# Altium schematic symbol library SCH - MCU - NUVOTON - NUVOTON M258SG6AE.SchLib: 1 symbol
Pins are listed as number, name and electrical type; pins without a type are passive.

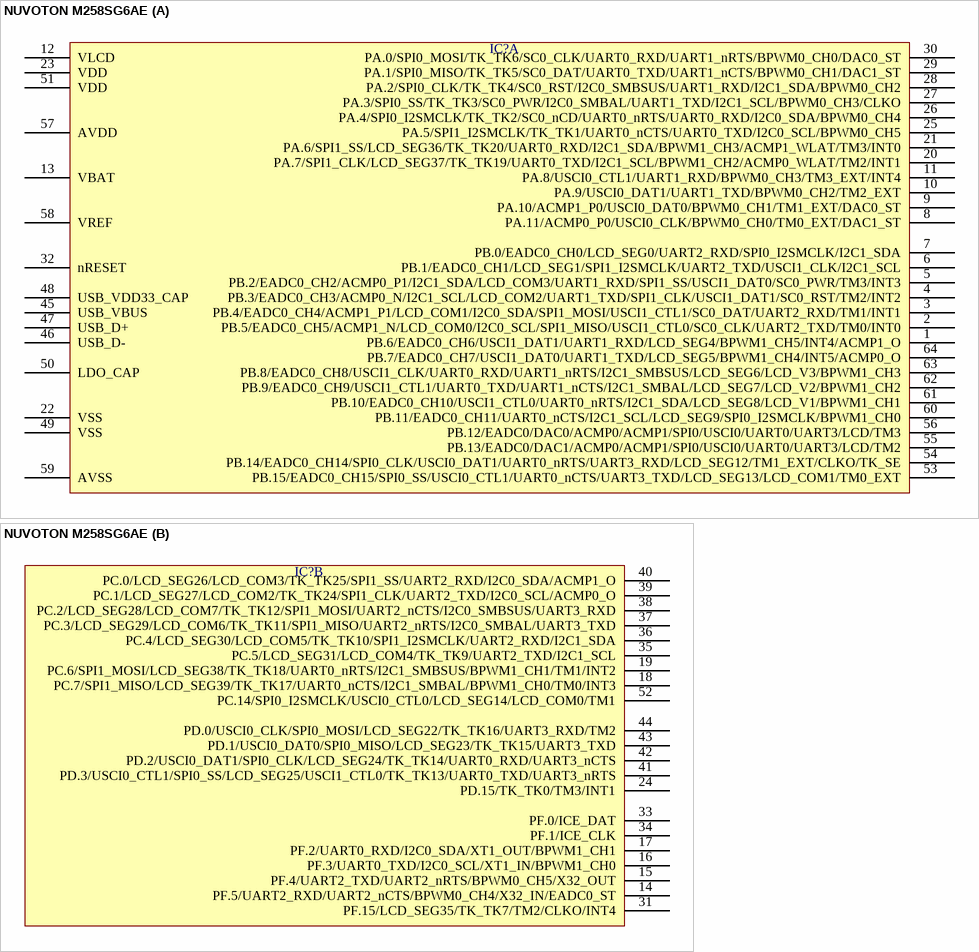
[diagram p0: symbol NUVOTON M258SG6AE]

## NUVOTON M258SG6AE
designator IC?  (value not drawn)
part A pins: 1 PB.6/EADC0_CH6/USCI1_DAT1/UART1_RXD/LCD_SEG4/BPWM1_CH5/INT4/ACMP1_O, 2 PB.5/EADC0_CH5/ACMP1_N/LCD_COM0/I2C0_SCL/SPI1_MISO/USCI1_CTL0/SC0_CLK/UART2_TXD/TM0/INT0, 3 PB.4/EADC0_CH4/ACMP1_P1/LCD_COM1/I2C0_SDA/SPI1_MOSI/USCI1_CTL1/SC0_DAT/UART2_RXD/TM1/INT1, 4 PB.3/EADC0_CH3/ACMP0_N/I2C1_SCL/LCD_COM2/UART1_TXD/SPI1_CLK/USCI1_DAT1/SC0_RST/TM2/INT2, 5 PB.2/EADC0_CH2/ACMP0_P1/I2C1_SDA/LCD_COM3/UART1_RXD/SPI1_SS/USCI1_DAT0/SC0_PWR/TM3/INT3, 6 PB.1/EADC0_CH1/LCD_SEG1/SPI1_I2SMCLK/UART2_TXD/USCI1_CLK/I2C1_SCL, 7 PB.0/EADC0_CH0/LCD_SEG0/UART2_RXD/SPI0_I2SMCLK/I2C1_SDA, 8 PA.11/ACMP0_P0/USCI0_CLK/BPWM0_CH0/TM0_EXT/DAC1_ST, 9 PA.10/ACMP1_P0/USCI0_DAT0/BPWM0_CH1/TM1_EXT/DAC0_ST, 10 PA.9/USCI0_DAT1/UART1_TXD/BPWM0_CH2/TM2_EXT, 11 PA.8/USCI0_CTL1/UART1_RXD/BPWM0_CH3/TM3_EXT/INT4, 12 VLCD, 13 VBAT, 20 PA.7/SPI1_CLK/LCD_SEG37/TK_TK19/UART0_TXD/I2C1_SCL/BPWM1_CH2/ACMP0_WLAT/TM2/INT1, 21 PA.6/SPI1_SS/LCD_SEG36/TK_TK20/UART0_RXD/I2C1_SDA/BPWM1_CH3/ACMP1_WLAT/TM3/INT0, 22 VSS, 23 VDD, 25 PA.5/SPI1_I2SMCLK/TK_TK1/UART0_nCTS/UART0_TXD/I2C0_SCL/BPWM0_CH5, 26 PA.4/SPI0_I2SMCLK/TK_TK2/SC0_nCD/UART0_nRTS/UART0_RXD/I2C0_SDA/BPWM0_CH4, 27 PA.3/SPI0_SS/TK_TK3/SC0_PWR/I2C0_SMBAL/UART1_TXD/I2C1_SCL/BPWM0_CH3/CLKO, 28 PA.2/SPI0_CLK/TK_TK4/SC0_RST/I2C0_SMBSUS/UART1_RXD/I2C1_SDA/BPWM0_CH2, 29 PA.1/SPI0_MISO/TK_TK5/SC0_DAT/UART0_TXD/UART1_nCTS/BPWM0_CH1/DAC1_ST, 30 PA.0/SPI0_MOSI/TK_TK6/SC0_CLK/UART0_RXD/UART1_nRTS/BPWM0_CH0/DAC0_ST, 32 nRESET, 45 USB_VBUS, 46 USB_D-, 47 USB_D+, 48 USB_VDD33_CAP, 49 VSS, 50 LDO_CAP, 51 VDD, 53 PB.15/EADC0_CH15/SPI0_SS/USCI0_CTL1/UART0_nCTS/UART3_TXD/LCD_SEG13/LCD_COM1/TM0_EXT, 54 PB.14/EADC0_CH14/SPI0_CLK/USCI0_DAT1/UART0_nRTS/UART3_RXD/LCD_SEG12/TM1_EXT/CLKO/TK_SE, 55 PB.13/EADC0/DAC1/ACMP0/ACMP1/SPI0/USCI0/UART0/UART3/LCD/TM2, 56 PB.12/EADC0/DAC0/ACMP0/ACMP1/SPI0/USCI0/UART0/UART3/LCD/TM3, 57 AVDD, 58 VREF, 59 AVSS, 60 PB.11/EADC0_CH11/UART0_nCTS/I2C1_SCL/LCD_SEG9/SPI0_I2SMCLK/BPWM1_CH0, 61 PB.10/EADC0_CH10/USCI1_CTL0/UART0_nRTS/I2C1_SDA/LCD_SEG8/LCD_V1/BPWM1_CH1, 62 PB.9/EADC0_CH9/USCI1_CTL1/UART0_TXD/UART1_nCTS/I2C1_SMBAL/LCD_SEG7/LCD_V2/BPWM1_CH2, 63 PB.8/EADC0_CH8/USCI1_CLK/UART0_RXD/UART1_nRTS/I2C1_SMBSUS/LCD_SEG6/LCD_V3/BPWM1_CH3, 64 PB.7/EADC0_CH7/USCI1_DAT0/UART1_TXD/LCD_SEG5/BPWM1_CH4/INT5/ACMP0_O
part B pins: 14 PF.5/UART2_RXD/UART2_nCTS/BPWM0_CH4/X32_IN/EADC0_ST, 15 PF.4/UART2_TXD/UART2_nRTS/BPWM0_CH5/X32_OUT, 16 PF.3/UART0_TXD/I2C0_SCL/XT1_IN/BPWM1_CH0, 17 PF.2/UART0_RXD/I2C0_SDA/XT1_OUT/BPWM1_CH1, 18 PC.7/SPI1_MISO/LCD_SEG39/TK_TK17/UART0_nCTS/I2C1_SMBAL/BPWM1_CH0/TM0/INT3, 19 PC.6/SPI1_MOSI/LCD_SEG38/TK_TK18/UART0_nRTS/I2C1_SMBSUS/BPWM1_CH1/TM1/INT2, 24 PD.15/TK_TK0/TM3/INT1, 31 PF.15/LCD_SEG35/TK_TK7/TM2/CLKO/INT4, 33 PF.0/ICE_DAT, 34 PF.1/ICE_CLK, 35 PC.5/LCD_SEG31/LCD_COM4/TK_TK9/UART2_TXD/I2C1_SCL, 36 PC.4/LCD_SEG30/LCD_COM5/TK_TK10/SPI1_I2SMCLK/UART2_RXD/I2C1_SDA, 37 PC.3/LCD_SEG29/LCD_COM6/TK_TK11/SPI1_MISO/UART2_nRTS/I2C0_SMBAL/UART3_TXD, 38 PC.2/LCD_SEG28/LCD_COM7/TK_TK12/SPI1_MOSI/UART2_nCTS/I2C0_SMBSUS/UART3_RXD, 39 PC.1/LCD_SEG27/LCD_COM2/TK_TK24/SPI1_CLK/UART2_TXD/I2C0_SCL/ACMP0_O, 40 PC.0/LCD_SEG26/LCD_COM3/TK_TK25/SPI1_SS/UART2_RXD/I2C0_SDA/ACMP1_O, 41 PD.3/USCI0_CTL1/SPI0_SS/LCD_SEG25/USCI1_CTL0/TK_TK13/UART0_TXD/UART3_nRTS, 42 PD.2/USCI0_DAT1/SPI0_CLK/LCD_SEG24/TK_TK14/UART0_RXD/UART3_nCTS, 43 PD.1/USCI0_DAT0/SPI0_MISO/LCD_SEG23/TK_TK15/UART3_TXD, 44 PD.0/USCI0_CLK/SPI0_MOSI/LCD_SEG22/TK_TK16/UART3_RXD/TM2, 52 PC.14/SPI0_I2SMCLK/USCI0_CTL0/LCD_SEG14/LCD_COM0/TM1